# EAGLE library part MCP4725 (library microchip-jlb)
Single inverter, SOT23-5
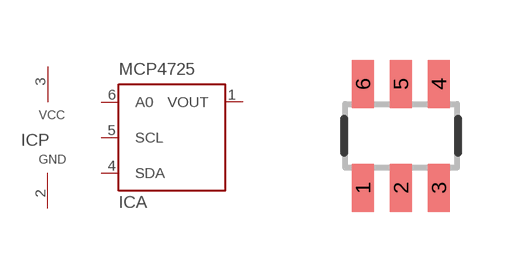
[diagram p0: symbol with the pads of SOT23-6; footprint SOT23-6]

Designator prefix IC; gates A=I2C_DAC P=PWRGND

## MCP4725  [SOT23-6]
1  A:VOUT  out
2  P:GND  pwr
3  P:VCC  pwr
4  A:SDA
5  A:SCL  in
6  A:A0  in

## Footprint SOT23-6 (pad centres in mm)
Small Outline Transistor
smd 0.55 x 1.2: 1 -0.95,-1.3; 2 0,-1.3; 3 0.95,-1.3; 4 0.95,1.3; 5 0,1.3; 6 -0.95,1.3